# Altium footprint library NE182UEEP6AMP.PcbLib: 1 footprints
Each footprint in its own frame and in the unit in brackets; x right, y up, seen from the top. Pads: shape width x height; smd on the part's side, far side on the other; paste and mask are expansions set on the pad; w line width, h text height; cw(c..) or ccw(c..) is an arc to the next point about the centre after c.
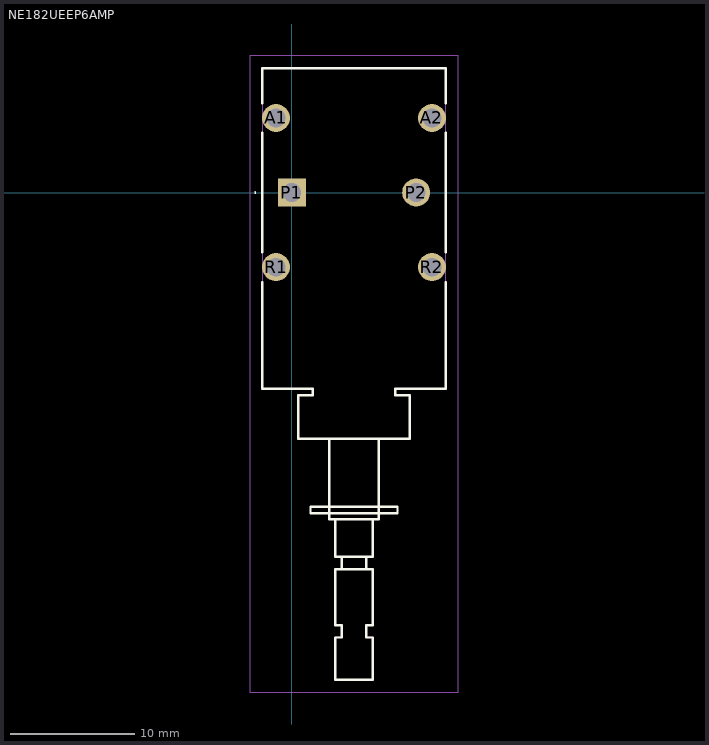
[diagram p0: the footprint, top view; thin cyan lines are the x and y axes]

## NE182UEEP6AMP [mm]
pads (6):
  round 2.25 hole 1.5: A1(-1.275,6) A2(11.275,6) P2(10,0) R1(-1.275,-6) R2(11.275,-6)
  rect 2.25x2.25 hole 1.5: P1(0,0)
Top Overlay:
  lines w0.1: -3,0 -3,0 ; -3,0 ccw(c-2.95,0) -2.9,0 ; -3,0 cw(c-2.95,0) -2.9,0 ; -2.9,0 -2.9,0
  lines w0.2: -2.4,-7.2 -2.4,-15.8 1.7,-15.8 1.7,-16.3 0.5,-16.3 0.5,-19.8 9.5,-19.8 9.5,-16.3 8.3,-16.3 8.3,-15.8 12.4,-15.8 12.4,-7.2 ; -2.4,-4.8 -2.4,4.8 ; -2.4,7.2 -2.4,10 12.4,10 12.4,7.2 ; 3,-19.8 3,-26.3 7,-26.3 7,-19.8 ; 3.5,-26.3 3.5,-29.3 6.5,-29.3 6.5,-26.3 ; 4,-29.3 4,-30.3 ; 6,-29.3 6,-30.3 ; 12.4,-4.8 12.4,4.8 ; 4,-30.3 6,-30.3 ; 4,-30.3 3.5,-30.3 3.5,-34.8 4,-34.8 4,-35.8 3.5,-35.8 3.5,-39.2 6.5,-39.2 6.5,-35.8 6,-35.8 6,-34.8 6.5,-34.8 6.5,-30.3 6,-30.3 ; 1.5,-25.8 1.5,-25.3 5,-25.3 8.5,-25.3 8.5,-25.8 1.5,-25.8
Mechanical 15:
  lines w0.1: 3,-19.8 3,-26.3 7,-26.3 7,-19.8 ; 3.5,-26.3 3.5,-29.3 ; 4,-29.3 4,-30.3 ; 6,-29.3 6,-30.3 ; 6.5,-26.3 6.5,-29.3 3.5,-29.3 ; 3.5,-34.8 3.5,-30.3 ; 3.5,-34.8 3.5,-34.8 ; 3.5,-34.8 4,-34.8 4,-35.8 ; 3.5,-30.3 4,-30.3 ; 3.5,-30.3 3.5,-30.3 ; 3.5,-29.3 3.5,-29.3 ; 4,-35.8 4,-35.8 ; 4,-35.8 3.5,-35.8 3.5,-39.2 6.5,-39.2 6.5,-35.8 6,-35.8 6,-34.8 6.5,-34.8 6.5,-30.3 6,-30.3 ; 4,-30.3 6,-30.3 ; -2.4,-15.8 -2.4,10 5,10 12.4,10 12.4,-15.8 8.3,-15.8 8.3,-16.3 9.5,-16.3 9.5,-19.8 0.5,-19.8 0.5,-16.3 1.7,-16.3 1.7,-15.8 -2.4,-15.8 ; 1.5,-25.8 1.5,-25.3 5,-25.3 8.5,-25.3 8.5,-25.8 1.5,-25.8
Mechanical 20:
  lines w0.1: -3.4,-40.2 13.4,-40.2 13.4,11 -3.4,11 -3.4,-40.2